# Altium footprint library PCB - SWITCH - PANASONIC EVQPUC.PcbLib: 1 footprints
Each footprint in its own frame and in the unit in brackets; x right, y up, seen from the top. Pads: shape width x height; smd on the part's side, far side on the other; paste and mask are expansions set on the pad; w line width, h text height; cw(c..) or ccw(c..) is an arc to the next point about the centre after c.
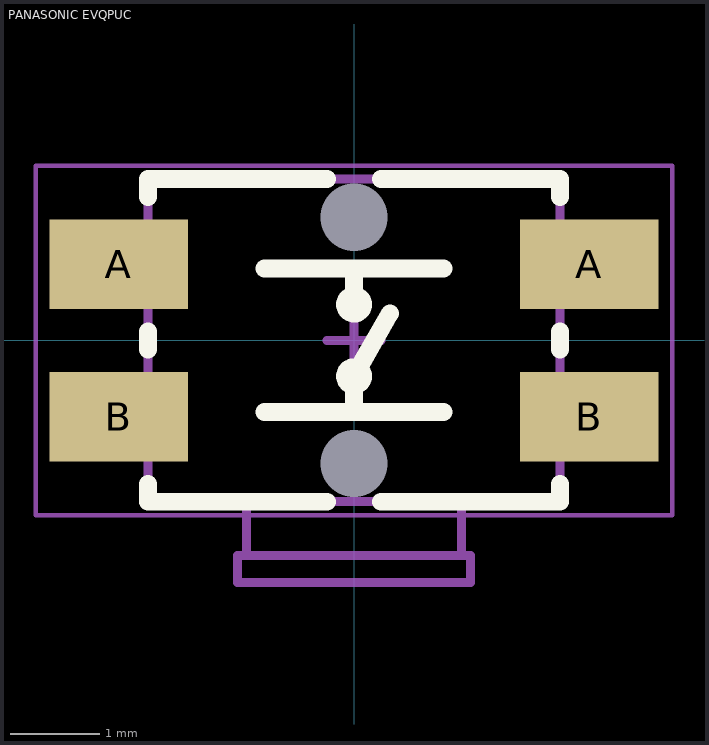
[diagram p0: the footprint, top view; thin cyan lines are the x and y axes]

## PANASONIC EVQPUC [mm] "Tactile Switch SPST-NO Side Actuated Surface Mount, Right Angle"
height 1.68
pads (6):
  rect 1.55x1 smd mask+0.1: A(-2.625,0.85) A(2.625,0.85) B(-2.625,-0.85) B(2.625,-0.85)
  rect 0x0 hole 0.75 unplated: M(0,-1.375) M(0,1.375)
Top Overlay:
  circle w0.2: c0,-0.4 r0.1
  circle w0.2: c0,0.4 r0.1
  lines w0.2: -2.3,-1.6 -2.3,-1.8 -0.3,-1.8 ; -2.3,-0.1 -2.3,0.1 ; -2.3,1.6 -2.3,1.8 -0.3,1.8 ; -1,-0.8 1,-0.8 ; -1,0.8 1,0.8 ; 0,-0.8 0,-0.4 0.4,0.3 ; 0,0.4 0,0.8 ; 0.3,-1.8 2.3,-1.8 2.3,-1.6 ; 0.3,1.8 2.3,1.8 2.3,1.6 ; 2.3,-0.1 2.3,0.1
Mechanical 13:
  lines w0.1: -1.2,-1.8 -1.2,-2.4 1.3,-2.4 ; 1.2,-2.4 1.2,-1.8 ; 1.3,-2.4 -1.3,-2.4 -1.3,-2.7 1.3,-2.7 1.3,-2.4 ; -2.3,-1.8 2.3,-1.8 2.3,1.8 -2.3,1.8 -2.3,-1.8
Mechanical 15 (Mech15):
  lines w0.05: -3.55,-1.95 3.55,-1.95 3.55,1.95 -3.55,1.95 -3.55,-1.95
  lines w0.1: -0.3,0 0.3,0 ; 0,-0.3 0,0.3
3D body "Panasonic EVQPU-LC-02K.step": height 1.65, standoff -0.5, extent -3.2,-2.75 3.2,1.79